# EAGLE library part TYCO_12PIN_1MM_SMD (library FPCConnectors)
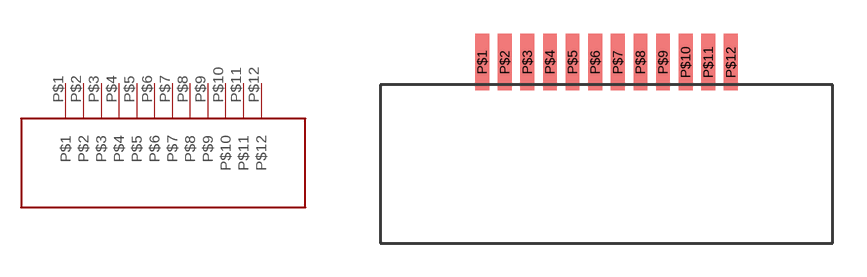
[diagram p2: symbol with the pads of TYCO_1MM_12PIN; footprint TYCO_1MM_12PIN]

Designator prefix -

## TYCO_12PIN_1MM_SMD  [TYCO_1MM_12PIN]
P$1  P$1
P$2  P$2
P$3  P$3
P$4  P$4
P$5  P$5
P$6  P$6
P$7  P$7
P$8  P$8
P$9  P$9
P$10  P$10
P$11  P$11
P$12  P$12

## Footprint TYCO_1MM_12PIN (pad centres in mm)
smd 0.61 x 2.5: P$1 -5.5,6; P$2 -4.5,6; P$3 -3.5,6; P$4 -2.5,6; P$5 -1.5,6; P$6 -0.5,6; P$7 0.5,6; P$8 1.5,6; P$9 2.5,6; P$10 3.5,6; P$11 4.5,6; P$12 5.5,6